# Altium schematic symbol library ToradexMainBoard-V0I1.SCHLIB: 303 symbols (part 12 of 14)
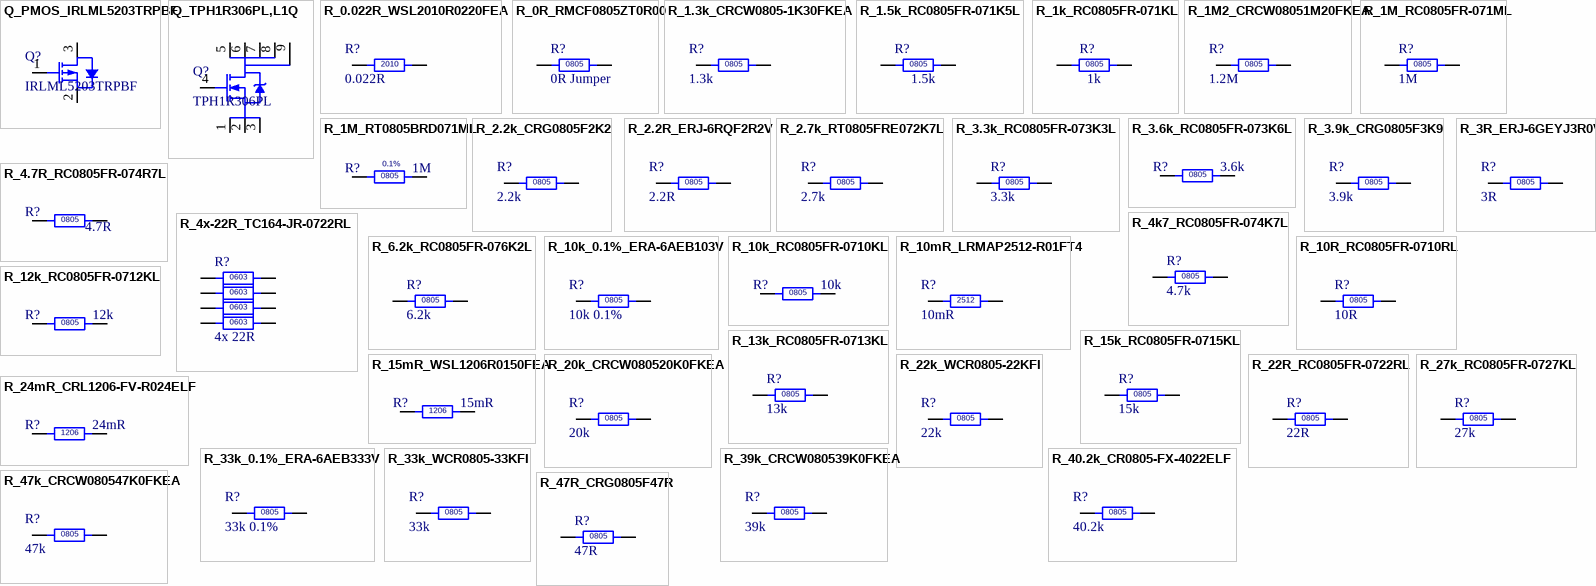
[diagram p26: symbols Q_PMOS_IRLML5203TRPBF to R_47R_CRG0805F47R]

## R_10R_RC0805FR-0710RL
designator R?, comment 10R
YAGEO (PHYCOMP) - RC0805FR-0710RL - RES, THICK FILM, 10R, 1%, 0.125W, 0805; Power Rating: 125mW; Voltage Rating: 150V; Temperature Coefficient: 200ppm/°C; PCBChecked: initials after Checked; Supplier 1: Digi-Key; Manufacturer Part Number: RC0805FR-0710RL; RoHS: Yes; Category: Chip SMD Resistors; Case/Package: 0805; Number of Pins: 2; Case Code (Imperial): 0805; Case Code (Metric): 2012; Min Operating Temperature: -55°C; Max Operating Temperature: 155°C; Resistance: 10R; Tolerance: 1%; Packaging: Tape and Reel; Voltage Rating (DC): 150V; Package Quantity: 1; Features: Moisture Resistant; Termination: SMD/SMT; Composition: Thick Film; Number of Terminations: 2; Max Power Dissipation: 125mW; Length: 2mm; Height: 0.5mm; Width: 1.25mm; Depth: 1.25mm; Lead Free: Lead Free; REACH SVHC: No SVHC; ComponentLink1URL: https://datasheet.ciiva.com/11809/0900766b8106beab-11809370.pdf?src-supplier=RSComponents; ComponentLink1Description: https://datasheet.ciiva.com/11809/0900766b8106beab-11809370.pdf?src-supplier=RSComponents; ComponentLink2URL: https://datasheet.ciiva.com/7941/444164-7941687.pdf?src-supplier=Element14; ComponentLink2Description: https://datasheet.ciiva.com/7941/444164-7941687.pdf?src-supplier=Element14; ComponentLink3URL: https://datasheet.ciiva.com/7941/444164-7941688.pdf?src-supplier=Element14; ComponentLink3Description: https://datasheet.ciiva.com/7941/444164-7941688.pdf?src-supplier=Element14; ComponentLink4URL: https://datasheet.ciiva.com/12555/rc0805-257173-12555112.pdf?src-supplier=Mouser; ComponentLink4Description: https://datasheet.ciiva.com/12555/rc0805-257173-12555112.pdf?src-supplier=Mouser; ComponentLink5URL: https://datasheet.ciiva.com/2457/pyu-r-int-thick-7-2457098.pdf?src-supplier=Digi-Key; ComponentLink5Description: https://datasheet.ciiva.com/2457/pyu-r-int-thick-7-2457098.pdf?src-supplier=Digi-Key; ComponentLink6URL: https://datasheet.ciiva.com/2457/pyu-r-int-thick-7-2457099.pdf?src-supplier=Digi-Key; ComponentLink6Description: https://datasheet.ciiva.com/2457/pyu-r-int-thick-7-2457099.pdf?src-supplier=Digi-Key; ComponentLink7URL: https://datasheet.ciiva.com/46412/444164-46412859.pdf?src-supplier=Element14; ComponentLink7Description: https://datasheet.ciiva.com/46412/444164-46412859.pdf?src-supplier=Element14; ComponentLink8URL: https://datasheet.ciiva.com/2457/pyu-r-int-thick-7-2457100.pdf?src-supplier=Digi-Key; ComponentLink8Description: https://datasheet.ciiva.com/2457/pyu-r-int-thick-7-2457100.pdf?src-supplier=Digi-Key; ComponentLink9URL: https://datasheet.ciiva.com/46447/444164-46447565.pdf?src-supplier=Element14; ComponentLink9Description: https://datasheet.ciiva.com/46447/444164-46447565.pdf?src-supplier=Element14; Supplier Part Number 1: 311-10.0CRCT-ND; Manufacturer: Yageo; Stock 1: 2009396; IPC7352C: done; SCHChecked: Initials after checked
footprint R0805 (Chip Resistor, 2-Leads, Body 2,00x1,25mm, IPC Medium Density)
pins: 1, 2

## R_12k_RC0805FR-0712KL
designator R?, comment 12k
Res Thick Film 0805 12K Ohm 1% 0.125W(1/8W) ±100ppm/C Molded SMD Paper T/R; Manufacturer: Yageo; Manufacturer Part Number: RC0805FR-0712KL; Resistance: 12kR; Temperature Coefficient: 100ppm/°C; Power Rating: 125mW; Voltage Rating: 150V; Supplier 1: Farnell; RoHS: Yes; Category: Chip SMD Resistors; Stock 1: 31780; Pricing 1: 10=0,04400, 100=0,02520, 500=0,01760, 1000=0,01340, 2500=0,01000 (EUR); Case/Package: 0805; Weight: 0.000194oz; Case Code (Imperial): 0805; Case Code (Metric): 2012; Min Operating Temperature: -55°C; Max Operating Temperature: 155°C; Tolerance: 1%; Packaging: Tape and Reel; Composition: Thick Film; Package Quantity: 1; Termination: SMD/SMT; Number of Terminations: 2; Military Standard: Not; Max Power Dissipation: 125mW; Features: Moisture Resistant; Length: 2mm; Height: 0.5mm; Width: 1.25mm; Depth: 1.25mm; REACH SVHC: Unknown; Lead Free: Lead Free; ComponentLink1URL: https://datasheet.ciiva.com/12577/rc0805-12577253.pdf?src-supplier=Mouser; ComponentLink1Description: https://datasheet.ciiva.com/12577/rc0805-12577253.pdf?src-supplier=Mouser; ComponentLink2URL: https://datasheet.ciiva.com/2519/pyu-r-int-thick-7-2519831.pdf?src-supplier=Digi-Key; ComponentLink2Description: https://datasheet.ciiva.com/2519/pyu-r-int-thick-7-2519831.pdf?src-supplier=Digi-Key; ComponentLink3URL: https://datasheet.ciiva.com/2519/pyu-r-int-thick-7-2519832.pdf?src-supplier=Digi-Key; ComponentLink3Description: https://datasheet.ciiva.com/2519/pyu-r-int-thick-7-2519832.pdf?src-supplier=Digi-Key; ComponentLink4URL: https://datasheet.ciiva.com/2519/pyu-r-int-thick-7-2519833.pdf?src-supplier=Digi-Key; ComponentLink4Description: https://datasheet.ciiva.com/2519/pyu-r-int-thick-7-2519833.pdf?src-supplier=Digi-Key; ComponentLink5URL: https://datasheet.ciiva.com/17018/rc0805-17018634.pdf?src-supplier=Future+Electronics; ComponentLink5Description: https://datasheet.ciiva.com/17018/rc0805-17018634.pdf?src-supplier=Future+Electronics; ComponentLink6URL: https://datasheet.ciiva.com/7941/444164-7941693.pdf?src-supplier=Element14; ComponentLink6Description: https://datasheet.ciiva.com/7941/444164-7941693.pdf?src-supplier=Element14; ComponentLink7URL: https://datasheet.ciiva.com/7941/444164-7941694.pdf?src-supplier=Element14; ComponentLink7Description: https://datasheet.ciiva.com/7941/444164-7941694.pdf?src-supplier=Element14; Supplier Part Number 1: 9237763
footprint R0805 (Chip Resistor, 2-Leads, Body 2,00x1,25mm, IPC Medium Density)
pins: 1, 2

## R_13k_RC0805FR-0713KL
designator R?, comment 13k
Res Thick Film 2.0 x 1.2 mm 13K Ohm 1% 0.125W(1/8W) 100ppm/ C Molded SMD Paper T/R; Manufacturer: Yageo; Manufacturer Part Number: RC0805FR-0713KL; Resistance: 13kR; Temperature Coefficient: 100ppm/°C; Voltage Rating (DC): 150V; Power Rating: 125mW; Supplier 1: Mouser; RoHS: Yes; Category: Chip SMD Resistors; Stock 1: 23655; Pricing 1: 1=0,11000, 10=0,02600, 100=0,00900, 1000=0,00700, 5000=0,00400, 1=0,13000, 10=0,03100, 100=0,01100, 1000=0,00800, 5000=0,00500, 10000=0,00500 (EUR); Mount: Surface Mount; Case/Package: 0805; Case Code (Metric): 2012; Case Code (Imperial): 0805; Min Operating Temperature: -55°C; Max Operating Temperature: 155°C; Tolerance: 1%; Composition: Thick Film; Packaging: Tape and Reel; Package Quantity: 1; Voltage Rating: 150V; Number of Terminations: 2; Termination: SMD/SMT; Military Standard: Not; Max Power Dissipation: 125mW; Features: Moisture Resistant; Length: 2mm; Height: 0.5mm; Width: 0.049inch; Depth: 1.25mm; Lead Free: Lead Free; ComponentLink1URL: https://datasheet.ciiva.com/11808/0900766b8106beab-11808595.pdf?src-supplier=RSComponents; ComponentLink1Description: https://datasheet.ciiva.com/11808/0900766b8106beab-11808595.pdf?src-supplier=RSComponents; ComponentLink2URL: https://datasheet.ciiva.com/2457/pyu-r-int-thick-7-2457158.pdf?src-supplier=Digi-Key; ComponentLink2Description: https://datasheet.ciiva.com/2457/pyu-r-int-thick-7-2457158.pdf?src-supplier=Digi-Key; ComponentLink3URL: https://datasheet.ciiva.com/2457/pyu-r-int-thick-7-2457159.pdf?src-supplier=Digi-Key; ComponentLink3Description: https://datasheet.ciiva.com/2457/pyu-r-int-thick-7-2457159.pdf?src-supplier=Digi-Key; ComponentLink4URL: https://datasheet.ciiva.com/2457/pyu-r-int-thick-7-2457160.pdf?src-supplier=Digi-Key; ComponentLink4Description: https://datasheet.ciiva.com/2457/pyu-r-int-thick-7-2457160.pdf?src-supplier=Digi-Key; ComponentLink5URL: https://datasheet.ciiva.com/16746/rc0805-16746411.pdf?src-supplier=Future+Electronics; ComponentLink5Description: https://datasheet.ciiva.com/16746/rc0805-16746411.pdf?src-supplier=Future+Electronics; ComponentLink6URL: https://datasheet.ciiva.com/15189/getdatasheetpartid-329342-15189900.pdf?src-supplier=Verical; ComponentLink6Description: https://datasheet.ciiva.com/15189/getdatasheetpartid-329342-15189900.pdf?src-supplier=Verical; Supplier Part Number 1: 603-RC0805FR-0713KL
footprint R0805 (Chip Resistor, 2-Leads, Body 2,00x1,25mm, IPC Medium Density)
pins: 1, 2

## R_15k_RC0805FR-0715KL
designator R?, comment 15k
YAGEO - RC0805FR-0715KL - SMD Chip Resistor, 0805 [2012 Metric], 15 kohm, RC Series, 150 V, Thick Film, 125 mW - SMD Chip Resistor, 0805 [2012 Metric], 15 kohm, RC Series, 150 V, Thick Film, 125 mW; Resistance: 15kR; Tolerance: 1%; Temperature Coefficient: 100ppm/°C; Voltage Rating (DC): 150V; Power Rating: 125mW; Supplier 1: Digi-Key; Manufacturer Part Number: RC0805FR-0715KL; RoHS: Yes; Category: Chip SMD Resistors; Case/Package: 0805; Number of Pins: 2; Weight: 0.000194oz; Case Code (Metric): 2012; Case Code (Imperial): 0805; Min Operating Temperature: -55°C; Max Operating Temperature: 155°C; Composition: Thick Film; Packaging: Tape and Reel; Features: Moisture Resistant; Voltage Rating: 150V; Package Quantity: 1; Number of Terminations: 2; Termination: SMD/SMT; Military Standard: Not; Max Power Dissipation: 125mW; Length: 2mm; Height: 0.5mm; Width: 1.25mm; Depth: 1.25mm; Lead Free: Lead Free; REACH SVHC: No SVHC; ComponentLink1URL: https://datasheet.ciiva.com/7941/444164-7941701.pdf?src-supplier=Element14; ComponentLink1Description: https://datasheet.ciiva.com/7941/444164-7941701.pdf?src-supplier=Element14; ComponentLink2URL: https://datasheet.ciiva.com/7941/444164-7941702.pdf?src-supplier=Element14; ComponentLink2Description: https://datasheet.ciiva.com/7941/444164-7941702.pdf?src-supplier=Element14; ComponentLink3URL: https://datasheet.ciiva.com/2457/pyu-r-int-thick-7-2457068.pdf?src-supplier=Digi-Key; ComponentLink3Description: https://datasheet.ciiva.com/2457/pyu-r-int-thick-7-2457068.pdf?src-supplier=Digi-Key; ComponentLink4URL: https://datasheet.ciiva.com/12577/rc0805-12577708.pdf?src-supplier=Mouser; ComponentLink4Description: https://datasheet.ciiva.com/12577/rc0805-12577708.pdf?src-supplier=Mouser; ComponentLink5URL: https://datasheet.ciiva.com/2457/pyu-r-int-thick-7-2457069.pdf?src-supplier=Digi-Key; ComponentLink5Description: https://datasheet.ciiva.com/2457/pyu-r-int-thick-7-2457069.pdf?src-supplier=Digi-Key; ComponentLink6URL: https://datasheet.ciiva.com/46412/444164-46412861.pdf?src-supplier=Element14; ComponentLink6Description: https://datasheet.ciiva.com/46412/444164-46412861.pdf?src-supplier=Element14; ComponentLink7URL: https://datasheet.ciiva.com/46447/444164-46447567.pdf?src-supplier=Element14; ComponentLink7Description: https://datasheet.ciiva.com/46447/444164-46447567.pdf?src-supplier=Element14; ComponentLink8URL: https://datasheet.ciiva.com/2457/pyu-r-int-thick-7-2457070.pdf?src-supplier=Digi-Key; ComponentLink8Description: https://datasheet.ciiva.com/2457/pyu-r-int-thick-7-2457070.pdf?src-supplier=Digi-Key; Supplier Part Number 1: 311-15.0KCRDKR-ND; Manufacturer: Yageo; Stock 1: 1279830
footprint R0805 (Chip Resistor, 2-Leads, Body 2,00x1,25mm, IPC Medium Density)
pins: 1, 2

## R_15mR_WSL1206R0150FEA
designator R?, comment 15mR
Res Metal Strip 1206 0.015 Ohm 1% 1/4W 75ppm/C Molded SMD SMD Embossed Plastic T/R; Manufacturer: Vishay Dale; Manufacturer Part Number: WSL1206R0150FEA; Temperature Coefficient: 75ppm/°C; Power Rating: 250mW; Voltage Rating: 60mV; Supplier 1: Farnell; RoHS: Yes; Category: Chip SMD Resistors; Stock 1: 4000; Pricing 1: 4000=0,33100 (EUR); Mount: Surface Mount; Case/Package: 1206; Number of Pins: 2; Weight: 0.000571oz; Contact Plating: Tin,Matte; Case Code (Imperial): 1206; Case Code (Metric): 3216; Min Operating Temperature: -65°C; Max Operating Temperature: 170°C; Resistance: 15mR; Tolerance: 1%; Resistor Type: Metal Strip,Metal Film; Packaging: Tape and Reel; Package Quantity: 4000; Termination: SMD/SMT; Voltage Rating (DC): 60mV; Length: 3.2mm; Height: 0.635mm; Width: 1.6mm; Depth: 1.6mm; Radiation Hardening: No; Lead Free: Lead Free; REACH SVHC: Unknown; ComponentLink1URL: https://datasheet.ciiva.com/7109/smpack-7109840.pdf?src-supplier=Newark; ComponentLink1Description: https://datasheet.ciiva.com/7109/smpack-7109840.pdf?src-supplier=Newark; ComponentLink2URL: https://datasheet.ciiva.com/5469/wsl-101914-5469061.pdf?src-supplier=Mouser; ComponentLink2Description: https://datasheet.ciiva.com/5469/wsl-101914-5469061.pdf?src-supplier=Mouser; ComponentLink3URL: https://datasheet.ciiva.com/16341/wsl-16341093.pdf?src-supplier=Future+Electronics; ComponentLink3Description: https://datasheet.ciiva.com/16341/wsl-16341093.pdf?src-supplier=Future+Electronics; ComponentLink4URL: https://datasheet.ciiva.com/17187/wsl-17187454.pdf?src-supplier=Avnet+Europe; ComponentLink4Description: https://datasheet.ciiva.com/17187/wsl-17187454.pdf?src-supplier=Avnet+Europe; Supplier Part Number 1: 2368767
footprint R1206 (Chip Capacitor, 2-Leads, Body 3,35x2,50mm, IPC Medium Density)
pins: 1, 2

## R_20k_CRCW080520K0FKEA
designator R?, comment 20k
RES SMD 20K OHM 1% 1/8W 0805; Manufacturer: Vishay; Manufacturer Part Number: CRCW080520K0FKEA; Resistance: 20kR; Temperature Coefficient: 100ppm/°C; Power Rating: 125mW; Voltage Rating: 150V; Supplier 1: Farnell; RoHS: Yes; Category: Chip SMD Resistors; Stock 1: 55000; Pricing 1: 5000=0,00580, 25000=0,00510 (EUR); Mount: Surface Mount; Case/Package: 0805; Number of Pins: 2; Case Code (Imperial): 0805; Case Code (Metric): 2012; Contact Plating: Tin; Weight: 0.000194oz; Min Operating Temperature: -55°C; Max Operating Temperature: 155°C; Packaging: Tape and Reel; Tolerance: 1%; Resistor Type: Thick Film; Number of Terminations: 2; Voltage Rating (DC): 150V; Package Quantity: 10; Termination: SMD/SMT; Max Power Dissipation: 125mW; Features: Automotive AEC-Q200; Working Voltage: 150V; Length: 2mm; Width: 1.25mm; Height: 0.45mm; Depth: 1.25mm; Lead Free: Lead Free; REACH SVHC: Unknown; Military Standard: Not; ComponentLink1URL: https://datasheet.ciiva.com/11810/0900766b80d98b26-11810856.pdf?src-supplier=RSComponents; ComponentLink1Description: https://datasheet.ciiva.com/11810/0900766b80d98b26-11810856.pdf?src-supplier=RSComponents; ComponentLink2URL: https://datasheet.ciiva.com/5562/dcrcwe3-109170-5562293.pdf?src-supplier=Mouser; ComponentLink2Description: https://datasheet.ciiva.com/5562/dcrcwe3-109170-5562293.pdf?src-supplier=Mouser; ComponentLink3URL: https://datasheet.ciiva.com/16199/dcrcwe3-16199237.pdf?src-supplier=Future+Electronics; ComponentLink3Description: https://datasheet.ciiva.com/16199/dcrcwe3-16199237.pdf?src-supplier=Future+Electronics; ComponentLink4URL: https://datasheet.ciiva.com/8337/dcrcwe3-8337655.pdf?src-supplier=Avnet; ComponentLink4Description: https://datasheet.ciiva.com/8337/dcrcwe3-8337655.pdf?src-supplier=Avnet; ComponentLink5URL: https://datasheet.ciiva.com/16779/70201119-16779384.pdf?src-supplier=Allied+Electronics; ComponentLink5Description: https://datasheet.ciiva.com/16779/70201119-16779384.pdf?src-supplier=Allied+Electronics; ComponentLink6URL: https://datasheet.ciiva.com/26317/fld-crcw-e3-data-en-26317160.pdf?src-supplier=Distrelec; ComponentLink6Description: https://datasheet.ciiva.com/26317/fld-crcw-e3-data-en-26317160.pdf?src-supplier=Distrelec; ComponentLink7URL: https://datasheet.ciiva.com/16852/dcrcwe3-16852955.pdf?src-supplier=Avnet+Europe; ComponentLink7Description: https://datasheet.ciiva.com/16852/dcrcwe3-16852955.pdf?src-supplier=Avnet+Europe; ComponentLink8URL: https://datasheet.ciiva.com/2467/dcrcwe3-2467197.pdf?src-supplier=Digi-Key; ComponentLink8Description: https://datasheet.ciiva.com/2467/dcrcwe3-2467197.pdf?src-supplier=Digi-Key; ComponentLink9URL: https://datasheet.ciiva.com/2467/dcrcwe3-2467198.pdf?src-supplier=Digi-Key; ComponentLink9Description: https://datasheet.ciiva.com/2467/dcrcwe3-2467198.pdf?src-supplier=Digi-Key; ComponentLink10URL: https://datasheet.ciiva.com/7841/1720486-7841886.pdf?src-supplier=Element14; ComponentLink10Description: https://datasheet.ciiva.com/7841/1720486-7841886.pdf?src-supplier=Element14; ComponentLink11URL: https://datasheet.ciiva.com/2467/dcrcwe3-2467199.pdf?src-supplier=Digi-Key; ComponentLink11Description: https://datasheet.ciiva.com/2467/dcrcwe3-2467199.pdf?src-supplier=Digi-Key; Supplier Part Number 1: 2123291
footprint R0805
pins: 1, 2

## R_22k_WCR0805-22KFI
designator R?, comment 22k
TT ELECTRONICS / WELWYN - WCR0805-22KFI - RES, 22K, 1%, 0.125W, 0805, THICK FILM; Manufacturer: TT Welwyn; Resistance: 22kR; Power Rating: 125mW; Voltage Rating: 150V; Temperature Coefficient: 100ppm/°C; Insulation Resistance: 1GR; Supplier 1: Farnell; Manufacturer Part Number: WCR0805-22KFI; RoHS: Yes; Category: Chip SMD Resistors; Stock 1: 52160; Pricing 1: 10=0,02340, 100=0,01820, 500=0,01120, 1000=0,00990, 2500=0,00870 (EUR); Case/Package: 0805; Number of Pins: 2; Case Code (Metric): 2012; Case Code (Imperial): 0805; Min Operating Temperature: -55°C; Max Operating Temperature: 155°C; Packaging: Tape and Reel; Tolerance: 1%; Voltage Rating (DC): 150V; Resistor Type: Thick Film; Length: 2mm; Width: 1.25mm; Depth: 1.25mm; REACH SVHC: No SVHC; Military Standard: Not; ComponentLink1URL: https://datasheet.ciiva.com/7879/1851687-7879973.pdf?src-supplier=Element14; ComponentLink1Description: https://datasheet.ciiva.com/7879/1851687-7879973.pdf?src-supplier=Element14; Supplier Part Number 1: 1099809
footprint R0805
pins: 1, 2

## R_22R_RC0805FR-0722RL
designator R?, comment 22R
RES SMD 22 OHM 1% 1/8W 0805; Manufacturer Part Number: RC0805FR-0722RL; Manufacturer: Yageo; Temperature Coefficient: 100ppm/°C; Power Rating: 125mW; Voltage Rating: 150V; PCBChecked: initials after Checked; Supplier 1: Digi-Key; RoHS: Yes; Category: Chip SMD Resistors; Case/Package: 0805; Case Code (Metric): 2012; Case Code (Imperial): 0805; Min Operating Temperature: -55°C; Max Operating Temperature: 155°C; Resistance: 22R; Tolerance: 1%; Packaging: Tape and Reel; Composition: Thick Film; Termination: SMD/SMT; Military Standard: Not; Package Quantity: 1; Number of Terminations: 2; Max Power Dissipation: 125mW; Features: Moisture Resistant; Working Voltage: 150V; Length: 0.079inch; Height: 0.024inch; Width: 0.049inch; Depth: 1.25mm; REACH SVHC: Unknown; Lead Free: Lead Free; ComponentLink1URL: https://datasheet.ciiva.com/11819/0900766b8106beab-11819837.pdf?src-supplier=RSComponents; ComponentLink1Description: https://datasheet.ciiva.com/11819/0900766b8106beab-11819837.pdf?src-supplier=RSComponents; ComponentLink2URL: https://datasheet.ciiva.com/2457/pyu-r-int-thick-7-2457045.pdf?src-supplier=Digi-Key; ComponentLink2Description: https://datasheet.ciiva.com/2457/pyu-r-int-thick-7-2457045.pdf?src-supplier=Digi-Key; ComponentLink3URL: https://datasheet.ciiva.com/2457/pyu-r-int-thick-7-2457046.pdf?src-supplier=Digi-Key; ComponentLink3Description: https://datasheet.ciiva.com/2457/pyu-r-int-thick-7-2457046.pdf?src-supplier=Digi-Key; ComponentLink4URL: https://datasheet.ciiva.com/12667/rc0805-12667371.pdf?src-supplier=Mouser; ComponentLink4Description: https://datasheet.ciiva.com/12667/rc0805-12667371.pdf?src-supplier=Mouser; ComponentLink5URL: https://datasheet.ciiva.com/2457/pyu-r-int-thick-7-2457044.pdf?src-supplier=Digi-Key; ComponentLink5Description: https://datasheet.ciiva.com/2457/pyu-r-int-thick-7-2457044.pdf?src-supplier=Digi-Key; ComponentLink6URL: https://datasheet.ciiva.com/46447/444164-46447574.pdf?src-supplier=Element14; ComponentLink6Description: https://datasheet.ciiva.com/46447/444164-46447574.pdf?src-supplier=Element14; Supplier Part Number 1: 311-22.0CRCT-ND; Stock 1: 302752; IPC7352C: done; SCHChecked: Initials after checked
footprint R0805 (Chip Resistor, 2-Leads, Body 2,00x1,25mm, IPC Medium Density)
pins: 1, 2

## R_24mR_CRL1206-FV-R024ELF
designator R?, comment 24mR
Current Sense Resistors - SMD 0.024ohm 1%; Manufacturer: Bourns; Manufacturer Part Number: CRL1206-FV-R024ELF; Temperature Coefficient: 400ppm/°C; Power Rating: 250mW; Supplier 1: Mouser; RoHS: Yes; Category: Uncategorized; Case/Package: 1206; Weight: 0.000353oz; Case Code (Imperial): 1206; Case Code (Metric): 3216; Termination: SMD/SMT; Resistor Type: Thick Film; Resistance: 24mR; Packaging: Tape and Reel; Tolerance: 1%; Length: 3.2mm; Height: 0.6mm; Width: 1.6mm; ComponentLink1URL: https://datasheet.ciiva.com/5474/crl-5474006.pdf?src-supplier=Mouser; ComponentLink1Description: https://datasheet.ciiva.com/5474/crl-5474006.pdf?src-supplier=Mouser; Supplier Part Number 1: 652-CRL1206FVR024ELF
footprint R1206 (Chip Capacitor, 2-Leads, Body 3,35x2,50mm, IPC Medium Density)
pins: 1, 2

## R_27k_RC0805FR-0727KL
designator R?, comment 27k
Surface Mount Thick Film Resistor, RC Series, 27 kohm, 125 mW, - 1%, 150 V, 0805 [2012 Metric]; Manufacturer: Yageo; Manufacturer Part Number: RC0805FR-0727KL; Resistance: 27kR; Temperature Coefficient: 100ppm/°C; Power Rating: 125mW; Voltage Rating: 150V; Supplier 1: Digi-Key; RoHS: Yes; Category: Chip SMD Resistors; Stock 1: 307907; Pricing 1: 1=0,10000, 10=0,04000, 100=0,01630, 1000=0,00731, 2500=0,00635 (USD); Case/Package: 0805; Case Code (Metric): 2012; Case Code (Imperial): 0805; Min Operating Temperature: -55°C; Max Operating Temperature: 155°C; Tolerance: 1%; Composition: Thick Film; Packaging: Tape and Reel; Package Quantity: 1; Number of Terminations: 2; Termination: SMD/SMT; Military Standard: Not; Max Power Dissipation: 125mW; Features: Moisture Resistant; Length: 2mm; Height: 0.5mm; Width: 0.049inch; Depth: 1.25mm; Lead Free: Lead Free; REACH SVHC: Unknown; ComponentLink1URL: https://datasheet.ciiva.com/11809/0900766b8106beab-11809381.pdf?src-supplier=RSComponents; ComponentLink1Description: https://datasheet.ciiva.com/11809/0900766b8106beab-11809381.pdf?src-supplier=RSComponents; ComponentLink2URL: https://datasheet.ciiva.com/2457/pyu-r-int-thick-7-2457986.pdf?src-supplier=Digi-Key; ComponentLink2Description: https://datasheet.ciiva.com/2457/pyu-r-int-thick-7-2457986.pdf?src-supplier=Digi-Key; ComponentLink3URL: https://datasheet.ciiva.com/2457/pyu-r-int-thick-7-2457988.pdf?src-supplier=Digi-Key; ComponentLink3Description: https://datasheet.ciiva.com/2457/pyu-r-int-thick-7-2457988.pdf?src-supplier=Digi-Key; ComponentLink4URL: https://datasheet.ciiva.com/7941/444164-7941751.pdf?src-supplier=Element14; ComponentLink4Description: https://datasheet.ciiva.com/7941/444164-7941751.pdf?src-supplier=Element14; ComponentLink5URL: https://datasheet.ciiva.com/2457/pyu-r-int-thick-7-2457987.pdf?src-supplier=Digi-Key; ComponentLink5Description: https://datasheet.ciiva.com/2457/pyu-r-int-thick-7-2457987.pdf?src-supplier=Digi-Key; ComponentLink6URL: https://datasheet.ciiva.com/7941/444164-7941750.pdf?src-supplier=Element14; ComponentLink6Description: https://datasheet.ciiva.com/7941/444164-7941750.pdf?src-supplier=Element14; Supplier Part Number 1: 311-27.0KCRCT-ND
footprint R0805 (Chip Resistor, 2-Leads, Body 2,00x1,25mm, IPC Medium Density)
pins: 1, 2

## R_33k_0.1%_ERA-6AEB333V
designator R?, comment 33k 0.1%
RESISTOR, 0805, 33K, FULL REEL; Manufacturer: Panasonic; Manufacturer Part Number: ERA-6AEB333V; Resistance: 33kR; Temperature Coefficient: 25ppm/°C; Voltage Rating: 100V; Power Rating: 125mW; Supplier 1: Farnell; RoHS: Yes; Category: Chip SMD Resistors; Stock 1: 11725; Pricing 1: 10=0,32100, 100=0,11400, 500=0,09740, 1000=0,03820, 2500=0,03500, 5000=0,03490, 25000=0,03480 (EUR); Mount: Surface Mount; Case/Package: 0805; Number of Pins: 2; Contact Plating: Tin; Case Code (Metric): 2012; Case Code (Imperial): 0805; Min Operating Temperature: -55°C; Max Operating Temperature: 155°C; Tolerance: 0.1%; Resistor Type: Thin Film,Metal Film; Packaging: Tape and Reel; Package Quantity: 1; Number of Terminations: 2; Termination: SMD/SMT; Max Power Dissipation: 125mW; Voltage Rating (DC): 100V; Features: Automotive AEC-Q200; Length: 2mm; Width: 1.25mm; Height: 0.5mm; Depth: 1.25mm; Radiation Hardening: No; REACH SVHC: No SVHC; Military Standard: Not; Lead Free: Lead Free; ComponentLink1URL: https://datasheet.ciiva.com/11813/0900766b80beefcc-11813136.pdf?src-supplier=RSComponents; ComponentLink1Description: https://datasheet.ciiva.com/11813/0900766b80beefcc-11813136.pdf?src-supplier=RSComponents; ComponentLink2URL: https://datasheet.ciiva.com/26335/453496-da-01-en-widerstand-0805-era-26335713.pdf?src-supplier=Conrad; ComponentLink2Description: https://datasheet.ciiva.com/26335/453496-da-01-en-widerstand-0805-era-26335713.pdf?src-supplier=Conrad; ComponentLink3URL: https://datasheet.ciiva.com/46397/485442-46397061.pdf?src-supplier=Element14; ComponentLink3Description: https://datasheet.ciiva.com/46397/485442-46397061.pdf?src-supplier=Element14; ComponentLink4URL: https://datasheet.ciiva.com/24068/aoa0000ce26-197354-24068904.pdf?src-supplier=Mouser; ComponentLink4Description: https://datasheet.ciiva.com/24068/aoa0000ce26-197354-24068904.pdf?src-supplier=Mouser; ComponentLink5URL: https://datasheet.ciiva.com/43457/485442-43457817.pdf?src-supplier=Farnell; ComponentLink5Description: https://datasheet.ciiva.com/43457/485442-43457817.pdf?src-supplier=Farnell; ComponentLink6URL: https://datasheet.ciiva.com/17210/aoa0000ce26-17210298.pdf?src-supplier=Avnet+Europe; ComponentLink6Description: https://datasheet.ciiva.com/17210/aoa0000ce26-17210298.pdf?src-supplier=Avnet+Europe; ComponentLink7URL: https://datasheet.ciiva.com/43455/485442-43455275.pdf?src-supplier=Farnell; ComponentLink7Description: https://datasheet.ciiva.com/43455/485442-43455275.pdf?src-supplier=Farnell; ComponentLink8URL: https://datasheet.ciiva.com/9190/aoa0000ce26-9190636.pdf?src-supplier=Avnet; ComponentLink8Description: https://datasheet.ciiva.com/9190/aoa0000ce26-9190636.pdf?src-supplier=Avnet; ComponentLink9URL: https://datasheet.ciiva.com/30187/54aoa0000ce26-30187628.pdf?src-supplier=Onlinecomponents.com; ComponentLink9Description: https://datasheet.ciiva.com/30187/54aoa0000ce26-30187628.pdf?src-supplier=Onlinecomponents.com; ComponentLink10URL: https://datasheet.ciiva.com/48530/era-eng-tds-48530172.pdf?src-supplier=Distrelec; ComponentLink10Description: https://datasheet.ciiva.com/48530/era-eng-tds-48530172.pdf?src-supplier=Distrelec; ComponentLink11URL: https://datasheet.ciiva.com/46436/485442-46436607.pdf?src-supplier=Element14; ComponentLink11Description: https://datasheet.ciiva.com/46436/485442-46436607.pdf?src-supplier=Element14; Supplier Part Number 1: 1577679
footprint R0805
pins: 1, 2

## R_33k_WCR0805-33KFI
designator R?, comment 33k
Res Thick Film 0805 33K Ohm 1% 0.125W(1/8W) ±100ppm/C Epoxy Pad SMD T/R; Manufacturer: TT Welwyn; Manufacturer Part Number: WCR0805-33KFI; Resistance: 33kR; Power Rating: 125mW; Voltage Rating: 150V; Insulation Resistance: 1GR; Temperature Coefficient: 100ppm/°C; Supplier 1: Farnell; RoHS: Yes; Category: Chip SMD Resistors; Stock 1: 38662; Pricing 1: 10=0,05820, 100=0,03230, 500=0,02460, 1000=0,02310, 2500=0,02160, 5000=0,02060, 25000=0,01920 (EUR); Case/Package: 0805; Number of Pins: 2; Case Code (Metric): 2012; Case Code (Imperial): 0805; Min Operating Temperature: -55°C; Max Operating Temperature: 155°C; Packaging: Tape and Reel; Tolerance: 1%; Resistor Type: Thick Film; Voltage Rating (DC): 150V; Resistance Tolerance: 1%; Construction: Rectangular; Series: WCR; Length: 2mm; Width: 1.25mm; Depth: 1.25mm; RoHS Compliant: Yes; REACH SVHC: No SVHC; Military Standard: Not; ComponentLink1URL: http://components.arrow.com/part/dataview/0323_02053794?src-supplier=Arrow+Europe; ComponentLink1Description: http://components.arrow.com/part/dataview/0323_02053794?src-supplier=Arrow+Europe; ComponentLink2URL: http://www.farnell.com/datasheets/2158849.pdf?src-supplier=Farnell; ComponentLink2Description: http://www.farnell.com/datasheets/2158849.pdf?src-supplier=Farnell; ComponentLink3URL: http://www.farnell.com/datasheets/2710383.pdf?src-supplier=Farnell; ComponentLink3Description: http://www.farnell.com/datasheets/2710383.pdf?src-supplier=Farnell; ComponentLink4URL: http://www.farnell.com/datasheets/2158849.pdf?src-supplier=Element14; ComponentLink4Description: http://www.farnell.com/datasheets/2158849.pdf?src-supplier=Element14; ComponentLink5URL: http://www.farnell.com/datasheets/2710383.pdf?src-supplier=Newark; ComponentLink5Description: http://www.farnell.com/datasheets/2710383.pdf?src-supplier=Newark; ComponentLink6URL: http://www.welwyn-tt.com/pdf/datasheet/WCR.pdf?src-supplier=Element14; ComponentLink6Description: http://www.welwyn-tt.com/pdf/datasheet/WCR.pdf?src-supplier=Element14; Supplier Part Number 1: 1099810
footprint R0805
pins: 1, 2

## R_39k_CRCW080539K0FKEA
designator R?, comment 39k
Res Thick Film 0805 39K Ohm 1% 0.125W(1/8W) ±100ppm/C Pad SMD Automotive T/R; Manufacturer: Vishay; Manufacturer Part Number: CRCW080539K0FKEA; Resistance: 39kR; Power Rating: 125mW; Voltage Rating: 150V; Temperature Coefficient: 100ppm/°C; Supplier 1: Farnell; RoHS: Yes; Category: Chip SMD Resistors; Stock 1: 32759; Pricing 1: 10=0,07080, 100=0,02940, 500=0,02070, 1000=0,01200, 2500=0,00860, 5000=0,00610, 25000=0,00540 (EUR); Case/Package: 0805; Number of Pins: 2; Contact Plating: Tin; Weight: 0.000194oz; Case Code (Metric): 2012; Case Code (Imperial): 0805; Min Operating Temperature: -55°C; Max Operating Temperature: 155°C; Packaging: Tape and Reel; Package Quantity: 10; Tolerance: 1%; Resistor Type: Thick Film; Number of Terminations: 2; Termination: SMD/SMT; Max Power Dissipation: 125mW; Voltage Rating (DC): 150V; Features: Automotive AEC-Q200; Length: 2mm; Width: 0.049inch; Height: 0.45mm; Depth: 1.25mm; Radiation Hardening: No; Lead Free: Lead Free; REACH SVHC: Unknown; Military Standard: Not; ComponentLink1URL: https://datasheet.ciiva.com/11809/0900766b80d98b26-11809202.pdf?src-supplier=RSComponents; ComponentLink1Description: https://datasheet.ciiva.com/11809/0900766b80d98b26-11809202.pdf?src-supplier=RSComponents; ComponentLink2URL: https://datasheet.ciiva.com/2467/dcrcwe3-2467602.pdf?src-supplier=Digi-Key; ComponentLink2Description: https://datasheet.ciiva.com/2467/dcrcwe3-2467602.pdf?src-supplier=Digi-Key; ComponentLink3URL: https://datasheet.ciiva.com/2467/dcrcwe3-2467603.pdf?src-supplier=Digi-Key; ComponentLink3Description: https://datasheet.ciiva.com/2467/dcrcwe3-2467603.pdf?src-supplier=Digi-Key; ComponentLink4URL: https://datasheet.ciiva.com/2467/dcrcwe3-2467604.pdf?src-supplier=Digi-Key; ComponentLink4Description: https://datasheet.ciiva.com/2467/dcrcwe3-2467604.pdf?src-supplier=Digi-Key; ComponentLink5URL: https://datasheet.ciiva.com/7841/1697337-7841669.pdf?src-supplier=Element14; ComponentLink5Description: https://datasheet.ciiva.com/7841/1697337-7841669.pdf?src-supplier=Element14; ComponentLink6URL: https://datasheet.ciiva.com/16852/dcrcwe3-16852278.pdf?src-supplier=Avnet+Europe; ComponentLink6Description: https://datasheet.ciiva.com/16852/dcrcwe3-16852278.pdf?src-supplier=Avnet+Europe; ComponentLink7URL: https://datasheet.ciiva.com/26314/fld-crcw-e3-data-en-26314582.pdf?src-supplier=Distrelec; ComponentLink7Description: https://datasheet.ciiva.com/26314/fld-crcw-e3-data-en-26314582.pdf?src-supplier=Distrelec; ComponentLink8URL: https://datasheet.ciiva.com/16789/70201119-16789063.pdf?src-supplier=Allied+Electronics; ComponentLink8Description: https://datasheet.ciiva.com/16789/70201119-16789063.pdf?src-supplier=Allied+Electronics; ComponentLink9URL: https://datasheet.ciiva.com/5550/dcrcwe3-109170-5550664.pdf?src-supplier=Mouser; ComponentLink9Description: https://datasheet.ciiva.com/5550/dcrcwe3-109170-5550664.pdf?src-supplier=Mouser; ComponentLink10URL: https://datasheet.ciiva.com/16391/dcrcwe3-16391050.pdf?src-supplier=Future+Electronics; ComponentLink10Description: https://datasheet.ciiva.com/16391/dcrcwe3-16391050.pdf?src-supplier=Future+Electronics; ComponentLink11URL: https://datasheet.ciiva.com/7841/1533075-7841852.pdf?src-supplier=Element14; ComponentLink11Description: https://datasheet.ciiva.com/7841/1533075-7841852.pdf?src-supplier=Element14; Supplier Part Number 1: 1652993
footprint R0805
pins: 1, 2

## R_40.2k_CR0805-FX-4022ELF
designator R?, comment 40.2k
Resistor,Ruthenium Oxide,40.2KOhms,100WV,1+/-% Tol,-100,100ppm-TC,0805-Case ;RoHS Compliant: Yes; Manufacturer: Bourns; Manufacturer Part Number: CR0805-FX-4022ELF; Resistance: 40.2kR; Tolerance: 1%; Temperature Coefficient: 100ppm/°C; Power Rating: 125mW; Voltage Rating: 150V; Supplier 1: Mouser; RoHS: Yes; Category: Chip SMD Resistors; Stock 1: 40102; Mount: Surface Mount; Case/Package: 0805; Contact Plating: Tin; Case Code (Imperial): 0805; Case Code (Metric): 2012; Min Operating Temperature: -55°C; Max Operating Temperature: 155°C; Resistor Type: Thick Film; Packaging: Tape and Reel; Package Quantity: 5000; Termination: SMD/SMT; Number of Terminations: 2; Max Power Dissipation: 125mW; Features: Moisture Resistant; Length: 2mm; Width: 1.25mm; Height: 0.024inch; Depth: 1.25mm; Thickness: 508um; Radiation Hardening: No; Military Standard: Not; ComponentLink1URL: https://datasheet.ciiva.com/9121/chpreztr-9121414.pdf?src-supplier=Avnet; ComponentLink1Description: https://datasheet.ciiva.com/9121/chpreztr-9121414.pdf?src-supplier=Avnet; ComponentLink2URL: https://datasheet.ciiva.com/14985/chpreztr-14985769.pdf?src-supplier=Digi-Key; ComponentLink2Description: https://datasheet.ciiva.com/14985/chpreztr-14985769.pdf?src-supplier=Digi-Key; Supplier Part Number 1: 652-CR0805FX-4022ELF
footprint R0805
pins: 1, 2

## R_47k_CRCW080547K0FKEA
designator R?, comment 47k
SMD Resistor, Thick film 47 kOhm,  ±  1 %, 0805, CRCW080547K0FKEA, Vishay; Resistance: 47kR; Tolerance: 1%; Temperature Coefficient: 100ppm/°C; Power Rating: 125mW; Voltage Rating: 150V; Supplier 1: Farnell; Manufacturer: Vishay; Manufacturer Part Number: CRCW080547K0FKEA; RoHS: Yes; Category: Chip SMD Resistors; Stock 1: 27525; Pricing 1: 10=0,07230, 100=0,02890, 500=0,02010, 1000=0,01130, 2500=0,00890, 5000=0,00530, 25000=0,00490 (EUR); Case/Package: 0805; Case Code (Imperial): 0805; Case Code (Metric): 2012; Contact Plating: Tin; Weight: 0.000194oz; Min Operating Temperature: -55°C; Max Operating Temperature: 155°C; Packaging: Tape and Reel; Resistor Type: Thick Film; Termination: SMD/SMT; Voltage Rating (DC): 150V; Package Quantity: 10; Number of Terminations: 2; Max Power Dissipation: 125mW; Features: Automotive AEC-Q200; Working Voltage: 150V; Length: 2mm; Width: 1.25mm; Height: 0.45mm; Depth: 1.25mm; Radiation Hardening: No; Lead Free: Lead Free; REACH SVHC: Unknown; Military Standard: Not; ComponentLink1URL: https://datasheet.ciiva.com/11809/0900766b80d98b26-11809181.pdf?src-supplier=RSComponents; ComponentLink1Description: https://datasheet.ciiva.com/11809/0900766b80d98b26-11809181.pdf?src-supplier=RSComponents; ComponentLink2URL: https://datasheet.ciiva.com/2514/dcrcwe3-2514312.pdf?src-supplier=Digi-Key; ComponentLink2Description: https://datasheet.ciiva.com/2514/dcrcwe3-2514312.pdf?src-supplier=Digi-Key; ComponentLink3URL: https://datasheet.ciiva.com/16204/dcrcwe3-16204264.pdf?src-supplier=Future+Electronics; ComponentLink3Description: https://datasheet.ciiva.com/16204/dcrcwe3-16204264.pdf?src-supplier=Future+Electronics; ComponentLink4URL: https://datasheet.ciiva.com/26314/fld-crcw-e3-data-en-26314584.pdf?src-supplier=Distrelec; ComponentLink4Description: https://datasheet.ciiva.com/26314/fld-crcw-e3-data-en-26314584.pdf?src-supplier=Distrelec; ComponentLink5URL: https://datasheet.ciiva.com/16723/70201119-16723909.pdf?src-supplier=Allied+Electronics; ComponentLink5Description: https://datasheet.ciiva.com/16723/70201119-16723909.pdf?src-supplier=Allied+Electronics; ComponentLink6URL: https://datasheet.ciiva.com/2514/dcrcwe3-2514311.pdf?src-supplier=Digi-Key; ComponentLink6Description: https://datasheet.ciiva.com/2514/dcrcwe3-2514311.pdf?src-supplier=Digi-Key; ComponentLink7URL: https://datasheet.ciiva.com/7777/1720486-7777577.pdf?src-supplier=Element14; ComponentLink7Description: https://datasheet.ciiva.com/7777/1720486-7777577.pdf?src-supplier=Element14; ComponentLink8URL: https://datasheet.ciiva.com/9006/dcrcwe3-9006477.pdf?src-supplier=Avnet; ComponentLink8Description: https://datasheet.ciiva.com/9006/dcrcwe3-9006477.pdf?src-supplier=Avnet; ComponentLink9URL: https://datasheet.ciiva.com/17178/dcrcwe3-17178445.pdf?src-supplier=Avnet+Europe; ComponentLink9Description: https://datasheet.ciiva.com/17178/dcrcwe3-17178445.pdf?src-supplier=Avnet+Europe; ComponentLink10URL: https://datasheet.ciiva.com/7777/1697337-7777406.pdf?src-supplier=Element14; ComponentLink10Description: https://datasheet.ciiva.com/7777/1697337-7777406.pdf?src-supplier=Element14; Supplier Part Number 1: 1469929
footprint R0805
pins: 1, 2

## R_47R_CRG0805F47R
designator R?, comment 47R
Res Thick Film 0805 47 Ohm 1% 0.125W(1/8W) ±200ppm/C Pad SMD T/R; Manufacturer Part Number: CRG0805F47R; Manufacturer: TE Connectivity; Power Rating: 125mW; Voltage Rating: 150V; Temperature Coefficient: 200ppm/°C; Number of Resistors: 1; Supplier 1: Digi-Key; RoHS: Yes; Category: Chip SMD Resistors; Mount: Surface Mount; Case/Package: 0805; Weight: 0.000194oz; Case Code (Imperial): 0805; Case Code (Metric): 2012; Min Operating Temperature: -55°C; Max Operating Temperature: 125°C; Resistance: 47R; Tolerance: 1%; Packaging: Tape and Reel; Composition: Thick Film; Package Quantity: 5000; Termination: Solder; Number of Terminations: 2; Length: 2mm; Height: 0.55mm; Width: 1.25mm; Depth: 1.25mm; Radiation Hardening: No; ELV: Compliant; ComponentLink1URL: https://datasheet.ciiva.com/11809/0900766b800a696e-11809118.pdf?src-supplier=RSComponents; ComponentLink1Description: https://datasheet.ciiva.com/11809/0900766b800a696e-11809118.pdf?src-supplier=RSComponents; ComponentLink2URL: https://datasheet.ciiva.com/24437/eng-ds-1773204-e-24437350.pdf?src-supplier=Onlinecomponents.com; ComponentLink2Description: https://datasheet.ciiva.com/24437/eng-ds-1773204-e-24437350.pdf?src-supplier=Onlinecomponents.com; ComponentLink3URL: https://datasheet.ciiva.com/5559/eng-ds-1773204-g-5559274.pdf?src-supplier=Mouser; ComponentLink3Description: https://datasheet.ciiva.com/5559/eng-ds-1773204-g-5559274.pdf?src-supplier=Mouser; Supplier Part Number 1: A126371CT-ND; Stock 1: 38063
footprint R0805 (Chip Resistor, 2-Leads, Body 2,00x1,25mm, IPC Medium Density)
pins: 1, 2

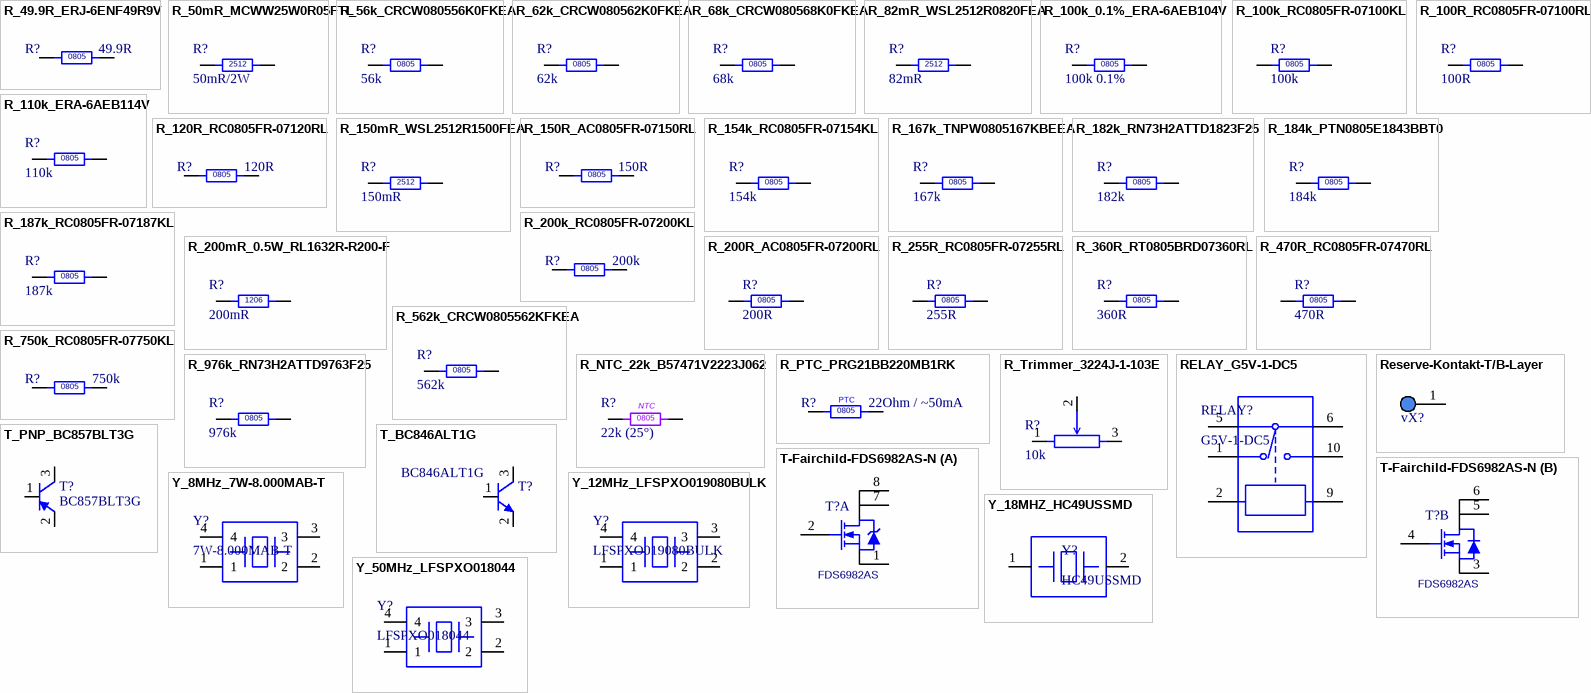
[diagram p15: symbols R_49.9R_ERJ-6ENF49R9V to Y_50MHz_LFSPXO018044]

## R_49.9R_ERJ-6ENF49R9V
designator R?, comment 49.9R
PANASONIC - ERJ6ENF49R9V - Surface Mount Thick Film Resistor, AEC-Q200 ERJ Series, 49.9 ohm, 125 mW, -  1%, 150 V RoHS Compliant: Yes; Manufacturer Part Number: ERJ-6ENF49R9V; Voltage Rating (DC): 150V; Temperature Coefficient: 100ppm/°C; Max Power Dissipation: 125mW; Supplier 1: Digi-Key; RoHS: Yes; Category: Chip SMD Resistors; Mount: Surface Mount; Case/Package: 0805; Weight: 0.000194oz; Case Code (Metric): 2012; Case Code (Imperial): 0805; Contact Plating: Tin; Min Operating Temperature: -55°C; Max Operating Temperature: 155°C; Composition: Thick Film; Number of Terminations: 2; Termination: SMD/SMT; Military Standard: Not; Resistance: 49.9R; Power Rating: 125mW; Tolerance: 1%; Packaging: Tape and Reel; Package Quantity: 1; Voltage Rating: 150V; Features: Automotive AEC-Q200; Length: 2mm; Height: 0.6mm; Depth: 1.25mm; Width: 0.049inch; Radiation Hardening: No; Lead Free: Lead Free; REACH SVHC: No SVHC; ComponentLink1URL: https://datasheet.ciiva.com/11821/0900766b80f80784-11821675.pdf?src-supplier=RSComponents; ComponentLink1Description: https://datasheet.ciiva.com/11821/0900766b80f80784-11821675.pdf?src-supplier=RSComponents; ComponentLink2URL: https://datasheet.ciiva.com/46388/426256-46388901.pdf?src-supplier=Element14; ComponentLink2Description: https://datasheet.ciiva.com/46388/426256-46388901.pdf?src-supplier=Element14; ComponentLink3URL: https://datasheet.ciiva.com/16787/70260748-16787399.pdf?src-supplier=Allied+Electronics; ComponentLink3Description: https://datasheet.ciiva.com/16787/70260748-16787399.pdf?src-supplier=Allied+Electronics; ComponentLink4URL: https://datasheet.ciiva.com/6129/426256-6129660.pdf?src-supplier=Farnell; ComponentLink4Description: https://datasheet.ciiva.com/6129/426256-6129660.pdf?src-supplier=Farnell; ComponentLink5URL: https://datasheet.ciiva.com/16511/aoa0000ce2-16511996.pdf?src-supplier=Avnet+Asia; ComponentLink5Description: https://datasheet.ciiva.com/16511/aoa0000ce2-16511996.pdf?src-supplier=Avnet+Asia; ComponentLink6URL: https://datasheet.ciiva.com/24124/aoa0000ce2-24124519.pdf?src-supplier=Mouser; ComponentLink6Description: https://datasheet.ciiva.com/24124/aoa0000ce2-24124519.pdf?src-supplier=Mouser; ComponentLink7URL: https://datasheet.ciiva.com/43460/426256-43460007.pdf?src-supplier=Farnell; ComponentLink7Description: https://datasheet.ciiva.com/43460/426256-43460007.pdf?src-supplier=Farnell; ComponentLink8URL: https://datasheet.ciiva.com/28694/1678782-28694233.pdf?src-supplier=Element14; ComponentLink8Description: https://datasheet.ciiva.com/28694/1678782-28694233.pdf?src-supplier=Element14; ComponentLink9URL: https://datasheet.ciiva.com/9117/aoa0000ce2-9117322.pdf?src-supplier=Avnet; ComponentLink9Description: https://datasheet.ciiva.com/9117/aoa0000ce2-9117322.pdf?src-supplier=Avnet; ComponentLink10URL: https://datasheet.ciiva.com/46377/426256-46377242.pdf?src-supplier=Element14; ComponentLink10Description: https://datasheet.ciiva.com/46377/426256-46377242.pdf?src-supplier=Element14; ComponentLink11URL: https://datasheet.ciiva.com/17209/aoa0000ce2-17209485.pdf?src-supplier=Avnet+Europe; ComponentLink11Description: https://datasheet.ciiva.com/17209/aoa0000ce2-17209485.pdf?src-supplier=Avnet+Europe; Supplier Part Number 1: P49.9CCT-ND; Manufacturer: Panasonic; Stock 1: 646305
footprint R0805 (Chip Resistor, 2-Leads, Body 2,00x1,25mm, IPC Medium Density)
pins: 1, 2

## R_50mR_MCWW25W0R05FTL
designator R?, comment 50mR/2W
Res Power Thick Film 2512 0.05 Ohm 1% 2W ±100ppm/°C Ceramic Emboss T/R; Manufacturer: Multicomp; Manufacturer Part Number: MCWW25W0R05FTL; Supplier 1: Farnell; RoHS: No; Stock 1: 6833; Pricing 1: 10=0,41400, 100=0,22000, 500=0,16900, 1000=0,14400 (EUR); ComponentLink1URL: http://www.farnell.com/datasheets/2189763.pdf?src-supplier=Farnell; ComponentLink1Description: http://www.farnell.com/datasheets/2189763.pdf?src-supplier=Farnell; Supplier Part Number 1: 2695186
footprint R2512
pins: 1, 2
text: 2512

## R_56k_CRCW080556K0FKEA
designator R?, comment 56k
SMD Resistor, Thick film 56 kOhm,  ±  1 %, 0805, CRCW080556K0FKEA, Vishay; Resistance: 56kR; Tolerance: 1%; Temperature Coefficient: 100ppm/°C; Power Rating: 125mW; Voltage Rating: 150V; Supplier 1: Farnell; Manufacturer: Vishay; Manufacturer Part Number: CRCW080556K0FKEA; RoHS: Yes; Category: Chip SMD Resistors; Stock 1: 85000; Pricing 1: 5000=0,00580, 25000=0,00510 (EUR); Mount: Surface Mount; Case/Package: 0805; Number of Pins: 2; Case Code (Imperial): 0805; Case Code (Metric): 2012; Contact Plating: Tin; Weight: 0.000194oz; Size Code: 0805; Min Operating Temperature: -55°C; Max Operating Temperature: 155°C; Packaging: Tape and Reel; Resistor Type: Thick Film; Termination: SMD/SMT; Series: CRCW; Number of Terminations: 2; Max Power Dissipation: 125mW; Package Quantity: 10; Voltage Rating (DC): 150V; Features: Automotive AEC-Q200; Construction: Rectangular; Resistance Tolerance: 1%; Technology: THICK FILM; Length: 2mm; Width: 1.25mm; Height: 0.45mm; Depth: 1.25mm; Radiation Hardening: No; RoHS Compliant: Yes; Lead Free: Lead Free; Military Standard: Not; REACH SVHC: Unknown; ComponentLink1URL: https://datasheet.ciiva.com/11809/0900766b80d98b26-11809897.pdf?src-supplier=RSComponents; ComponentLink1Description: https://datasheet.ciiva.com/11809/0900766b80d98b26-11809897.pdf?src-supplier=RSComponents; ComponentLink2URL: https://datasheet.ciiva.com/2467/dcrcwe3-2467461.pdf?src-supplier=Digi-Key; ComponentLink2Description: https://datasheet.ciiva.com/2467/dcrcwe3-2467461.pdf?src-supplier=Digi-Key; ComponentLink3URL: https://datasheet.ciiva.com/7841/1697337-7841685.pdf?src-supplier=Element14; ComponentLink3Description: https://datasheet.ciiva.com/7841/1697337-7841685.pdf?src-supplier=Element14; ComponentLink4URL: https://datasheet.ciiva.com/2467/dcrcwe3-2467462.pdf?src-supplier=Digi-Key; ComponentLink4Description: https://datasheet.ciiva.com/2467/dcrcwe3-2467462.pdf?src-supplier=Digi-Key; ComponentLink5URL: https://datasheet.ciiva.com/15159/getdatasheetpartid-250024-15159094.pdf?src-supplier=Verical; ComponentLink5Description: https://datasheet.ciiva.com/15159/getdatasheetpartid-250024-15159094.pdf?src-supplier=Verical; ComponentLink6URL: https://datasheet.ciiva.com/2467/dcrcwe3-2467463.pdf?src-supplier=Digi-Key; ComponentLink6Description: https://datasheet.ciiva.com/2467/dcrcwe3-2467463.pdf?src-supplier=Digi-Key; ComponentLink7URL: https://datasheet.ciiva.com/16773/70201119-16773849.pdf?src-supplier=Allied+Electronics; ComponentLink7Description: https://datasheet.ciiva.com/16773/70201119-16773849.pdf?src-supplier=Allied+Electronics; ComponentLink8URL: https://datasheet.ciiva.com/8999/dcrcwe3-8999098.pdf?src-supplier=Avnet; ComponentLink8Description: https://datasheet.ciiva.com/8999/dcrcwe3-8999098.pdf?src-supplier=Avnet; ComponentLink9URL: https://datasheet.ciiva.com/16435/dcrcwe3-16435882.pdf?src-supplier=Future+Electronics; ComponentLink9Description: https://datasheet.ciiva.com/16435/dcrcwe3-16435882.pdf?src-supplier=Future+Electronics; ComponentLink10URL: https://datasheet.ciiva.com/17176/dcrcwe3-17176426.pdf?src-supplier=Avnet+Europe; ComponentLink10Description: https://datasheet.ciiva.com/17176/dcrcwe3-17176426.pdf?src-supplier=Avnet+Europe; ComponentLink11URL: https://datasheet.ciiva.com/26314/fld-crcw-e3-data-en-26314586.pdf?src-supplier=Distrelec; ComponentLink11Description: https://datasheet.ciiva.com/26314/fld-crcw-e3-data-en-26314586.pdf?src-supplier=Distrelec; ComponentLink12URL: https://datasheet.ciiva.com/48525/dcrcwe3-48525851.pdf?src-supplier=Avnet; ComponentLink12Description: https://datasheet.ciiva.com/48525/dcrcwe3-48525851.pdf?src-supplier=Avnet; Supplier Part Number 1: 2123349
footprint R0805
pins: 1, 2

## R_62k_CRCW080562K0FKEA
designator R?, comment 62k
THICK FILM RESISTOR, 62KOHM, 125mW, 1%, FULL REEL; Product Range:AEC-Q200 CRCW Series; Resistance:62kohm; Power Rating:125mW; Resistance Tolerance:  1%; Voltage Rating:150V; Resistor Case Style:0805 ^2012 Metric]; No. of Pins:2; Manufacturer: Vishay; Manufacturer Part Number: CRCW080562K0FKEA; Resistance: 62kR; Temperature Coefficient: 100ppm/°C; Voltage Rating: 150V; Supplier 1: Farnell; RoHS: Yes; Category: Chip SMD Resistors; Stock 1: 1070; Pricing 1: 10=0,06300, 100=0,02630, 500=0,01890, 1000=0,01150, 2500=0,01080 (EUR); Mount: Surface Mount; Case/Package: 0805; Number of Pins: 2; Case Code (Imperial): 0805; Case Code (Metric): 2012; Contact Plating: Tin; Weight: 0.000194oz; Size Code: 0805; Min Operating Temperature: -55°C; Max Operating Temperature: 155°C; Resistor Type: Thick Film; Tolerance: 1%; Packaging: Tape and Reel; Power Rating: 125mW; Series: CRCW; Package Quantity: 5000; Termination: SMD/SMT; Max Power Dissipation: 125mW; Number of Terminations: 2; Voltage Rating (DC): 150V; Features: Automotive AEC-Q200; Resistance Tolerance: 1%; Construction: Rectangular; Technology: THICK FILM; Length: 2mm; Width: 1.25mm; Height: 0.45mm; Depth: 1.25mm; Radiation Hardening: No; RoHS Compliant: Yes; Lead Free: Lead Free; REACH SVHC: Unknown; Military Standard: Not; ComponentLink1URL: https://datasheet.ciiva.com/11809/0900766b80d98b26-11809850.pdf?src-supplier=RSComponents; ComponentLink1Description: https://datasheet.ciiva.com/11809/0900766b80d98b26-11809850.pdf?src-supplier=RSComponents; ComponentLink2URL: https://datasheet.ciiva.com/16394/dcrcwe3-16394519.pdf?src-supplier=Future+Electronics; ComponentLink2Description: https://datasheet.ciiva.com/16394/dcrcwe3-16394519.pdf?src-supplier=Future+Electronics; ComponentLink3URL: https://datasheet.ciiva.com/22705/1697337-22705883.pdf?src-supplier=Element14; ComponentLink3Description: https://datasheet.ciiva.com/22705/1697337-22705883.pdf?src-supplier=Element14; ComponentLink4URL: https://datasheet.ciiva.com/26314/fld-crcw-e3-data-en-26314587.pdf?src-supplier=Distrelec; ComponentLink4Description: https://datasheet.ciiva.com/26314/fld-crcw-e3-data-en-26314587.pdf?src-supplier=Distrelec; ComponentLink5URL: https://datasheet.ciiva.com/5552/dcrcwe3-109170-5552189.pdf?src-supplier=Mouser; ComponentLink5Description: https://datasheet.ciiva.com/5552/dcrcwe3-109170-5552189.pdf?src-supplier=Mouser; ComponentLink6URL: https://datasheet.ciiva.com/7816/1697337-7816109.pdf?src-supplier=Element14; ComponentLink6Description: https://datasheet.ciiva.com/7816/1697337-7816109.pdf?src-supplier=Element14; ComponentLink7URL: https://datasheet.ciiva.com/7816/1697337-7816110.pdf?src-supplier=Element14; ComponentLink7Description: https://datasheet.ciiva.com/7816/1697337-7816110.pdf?src-supplier=Element14; Supplier Part Number 1: 2139013
footprint R0805
pins: 1, 2